# Altium integrated library PCA9517AD,118.IntLib: 2 symbols
Pins are listed as number, name and electrical type; pins without a type are passive.

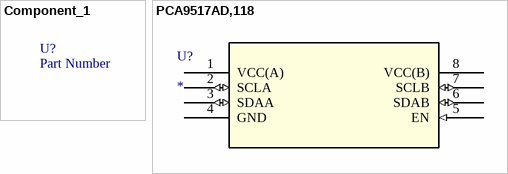
[diagram p0: symbols Component_1 to PCA9517AD,118]

## Component_1
designator U?, comment Part Number
XXX - Description - Package; GRAMS Lib Spec: 2.7

## PCA9517AD,118
designator U?
No Description Available; Mfr_Name: NXP; RefDes: RefDes; Type: Type
footprint SO8_SOT96-1_NXP
pins: 1 VCC(A) (power), 2 SCLA (io), 3 SDAA (io), 4 GND (power), 5 EN (in), 6 SDAB (io), 7 SCLB (io), 8 VCC(B) (power)